# Altium footprint library 7499010121A.PcbLib: 1 footprints
Each footprint in its own frame and in the unit in brackets; x right, y up, seen from the top. Pads: shape width x height; smd on the part's side, far side on the other; paste and mask are expansions set on the pad; w line width, h text height; cw(c..) or ccw(c..) is an arc to the next point about the centre after c.
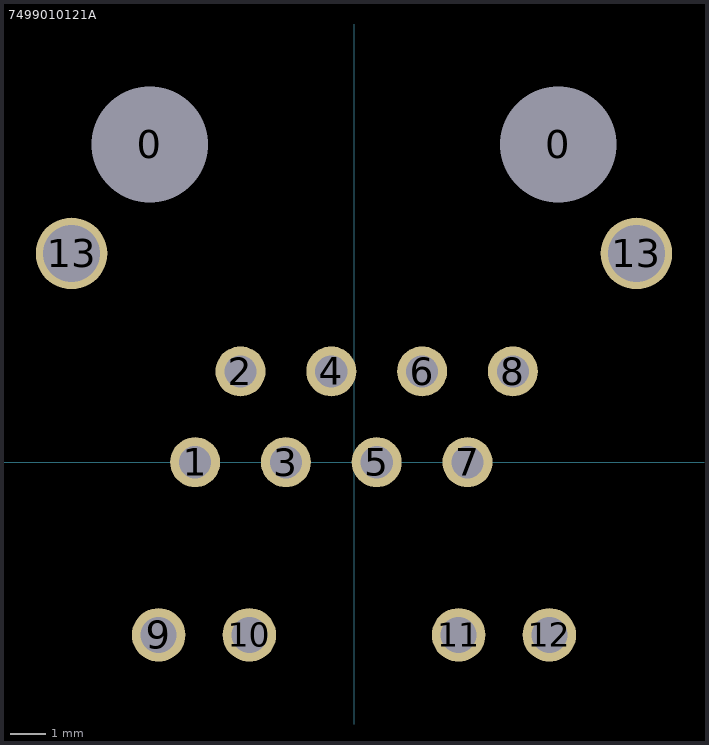
[diagram p0: the footprint, top view; thin cyan lines are the x and y axes]

## 7499010121A [mm] "RJ45 INTEGRATED MAGNETICS WURTH"
pads (16):
  round 2 hole 3.25 unplated: 0(-5.715,8.89) 0(5.715,8.89)
  round 1.4 hole 0.9: 1(-4.445,0) 2(-3.175,2.54) 3(-1.905,0) 4(-0.635,2.54) 5(0.635,0) 6(1.905,2.54) 7(3.175,0) 8(4.445,2.54)
  round 1.5 hole 1: 9(-5.465,-4.83) 10(-2.925,-4.83) 11(2.925,-4.83) 12(5.465,-4.83)
  round 2 hole 1.6: 13(-7.9,5.84) 13(7.9,5.84)
3D body "7499010121A.stp": height 13.31, standoff -4.09, extent -8.2,-5.665 8.2,19.635